# EAGLE library part MDBT42Q (library mdbt42)
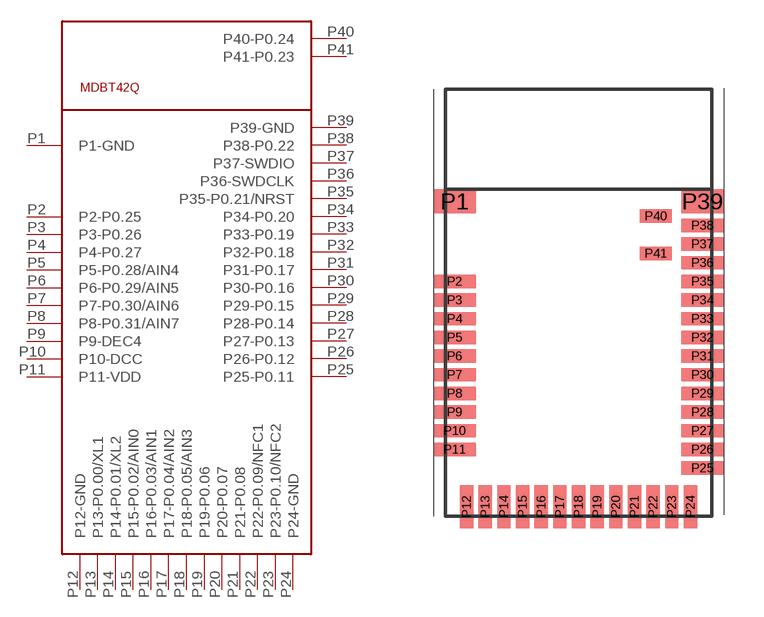
[diagram p0: symbol with the pads of MDBT40; footprint MDBT40]

Designator prefix -

## MDBT42Q  [MDBT40]
P1  P1-GND
P2  P2-P0.25
P3  P3-P0.26
P4  P4-P0.27
P5  P5-P0.28/AIN4
P6  P6-P0.29/AIN5
P7  P7-P0.30/AIN6
P8  P8-P0.31/AIN7
P9  P9-DEC4
P10  P10-DCC
P11  P11-VDD
P12  P12-GND
P13  P13-P0.00/XL1
P14  P14-P0.01/XL2
P15  P15-P0.02/AIN0
P16  P16-P0.03/AIN1
P17  P17-P0.04/AIN2
P18  P18-P0.05/AIN3
P19  P19-P0.06
P20  P20-P0.07
P21  P21-P0.08
P22  P22-P0.09/NFC1
P23  P23-P0.10/NFC2
P24  P24-GND
P25  P25-P0.11
P26  P26-P0.12
P27  P27-P0.13
P28  P28-P0.14
P29  P29-P0.15
P30  P30-P0.16
P31  P31-P0.17
P32  P32-P0.18
P33  P33-P0.19
P34  P34-P0.20
P35  P35-P0.21/NRST
P36  P36-SWDCLK
P37  P37-SWDIO
P38  P38-P0.22
P39  P39-GND
P40  P40-P0.24
P41  P41-P0.23

## Footprint MDBT40 (pad centres in mm)
smd 1.6 x 0.9: P1 -4.65,3.8; P39 4.65,3.8
smd 1.6 x 0.5: P2 -4.65,0.8; P3 -4.65,0.1; P4 -4.65,-0.6; P5 -4.65,-1.3; P6 -4.65,-2; P7 -4.65,-2.7; P8 -4.65,-3.4; P9 -4.65,-4.1; P10 -4.65,-4.8; P11 -4.65,-5.5; P25 4.65,-6.2; P26 4.65,-5.5; P27 4.65,-4.8; P28 4.65,-4.1; P29 4.65,-3.4; P30 4.65,-2.7; P31 4.65,-2; P32 4.65,-1.3; P33 4.65,-0.6; P34 4.65,0.1; P35 4.65,0.8; P36 4.65,1.5; P37 4.65,2.2; P38 4.65,2.9
smd 0.5 x 1.6: P12 -4.2,-7.65; P13 -3.5,-7.65; P14 -2.8,-7.65; P15 -2.1,-7.65; P16 -1.4,-7.65; P17 -0.7,-7.65; P18 0,-7.65; P19 0.7,-7.65; P20 1.4,-7.65; P21 2.1,-7.65; P22 2.8,-7.65; P23 3.5,-7.65; P24 4.2,-7.65
smd 1.2 x 0.5: P40 2.9,3.25; P41 2.9,1.85